# Altium footprint library lib.PcbLib: 34 footprints (part 3 of 3)
Each footprint in its own frame and in the unit in brackets; x right, y up, seen from the top. Pads: shape width x height; smd on the part's side, far side on the other; paste and mask are expansions set on the pad; w line width, h text height; cw(c..) or ccw(c..) is an arc to the next point about the centre after c.
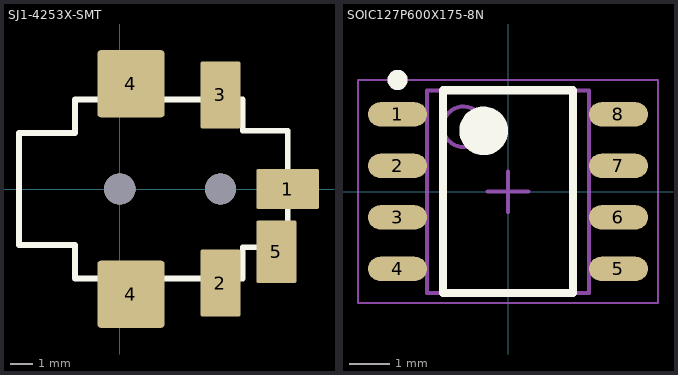
[diagram p2: the footprints below, top view; thin cyan lines are the x and y axes]

## SJ1-4253X-SMT [mm] "SJ1-4253X-SMT"
height 4.5
pads (8):
  rrect10% 2.8x1.8 smd: 1(7.5,0)
  rrect10% 1.8x3 smd: 2(4.5,-4.2) 3(4.5,4.2)
  rrect10% 3x3 smd: 4(0.5,-4.7) 4(0.5,4.7)
  rrect10% 1.8x2.8 smd: 5(7,-2.8)
  round 1.4 hole 1.4 unplated: ""(0,0) ""(4.5,0)
Top Overlay:
  lines w0.254: -4.5,-2.5 -4.5,2.5 -2,2.5 -2,4 5.5,4 5.5,2.6 7.5,2.6 7.5,-2.6 5.5,-2.6 5.5,-4 -2,-4 -2,-2.5 -4.5,-2.5
3D body "sj1-42535ts-smt.stp": height 5.1, standoff -0.5, extent -4.499,-5.2 8.001,5.2

## SOIC127P600X175-8N [mm] "SOIC, 8-Leads, Body 4.90x3.90mm, Pitch 1.27mm, IPC Medium Density"
height 1.75
pads (8):
  oval 1.45x0.6 smd: 1(-2.725,1.905) 2(-2.725,0.635) 3(-2.725,-0.635) 4(-2.725,-1.905) 5(2.725,-1.905) 6(2.725,-0.635) 7(2.725,0.635) 8(2.725,1.905)
Top Overlay:
  circle w0.6: c-0.6,1.5 r0.3
  circle w0.25: c-2.725,2.755 r0.125
  lines w0.2: -1.6,-2.5 1.6,-2.5 1.6,2.5 -1.6,2.5 -1.6,-2.5
Mechanical 13:
  circle w0.1: c-1.1,1.6 r0.5
  lines w0.1: -2,-2.5 2,-2.5 2,2.5 -2,2.5 -2,-2.5
Mechanical 15:
  lines w0.05: -3.7,-2.75 3.7,-2.75 3.7,2.75 -3.7,2.75 -3.7,-2.75
  lines w0.1: -0.5,0 0.5,0 ; 0,-0.5 0,0.5
3D body "SOIC127P600X175-8N.step": height 1.75, standoff 0, extent -3,-2.5 3,2.5